# Altium footprint library 遥控器PCB.PcbLib: 11 footprints
Each footprint in its own frame and in the unit in brackets; x right, y up, seen from the top. Pads: shape width x height; smd on the part's side, far side on the other; paste and mask are expansions set on the pad; w line width, h text height; cw(c..) or ccw(c..) is an arc to the next point about the centre after c.
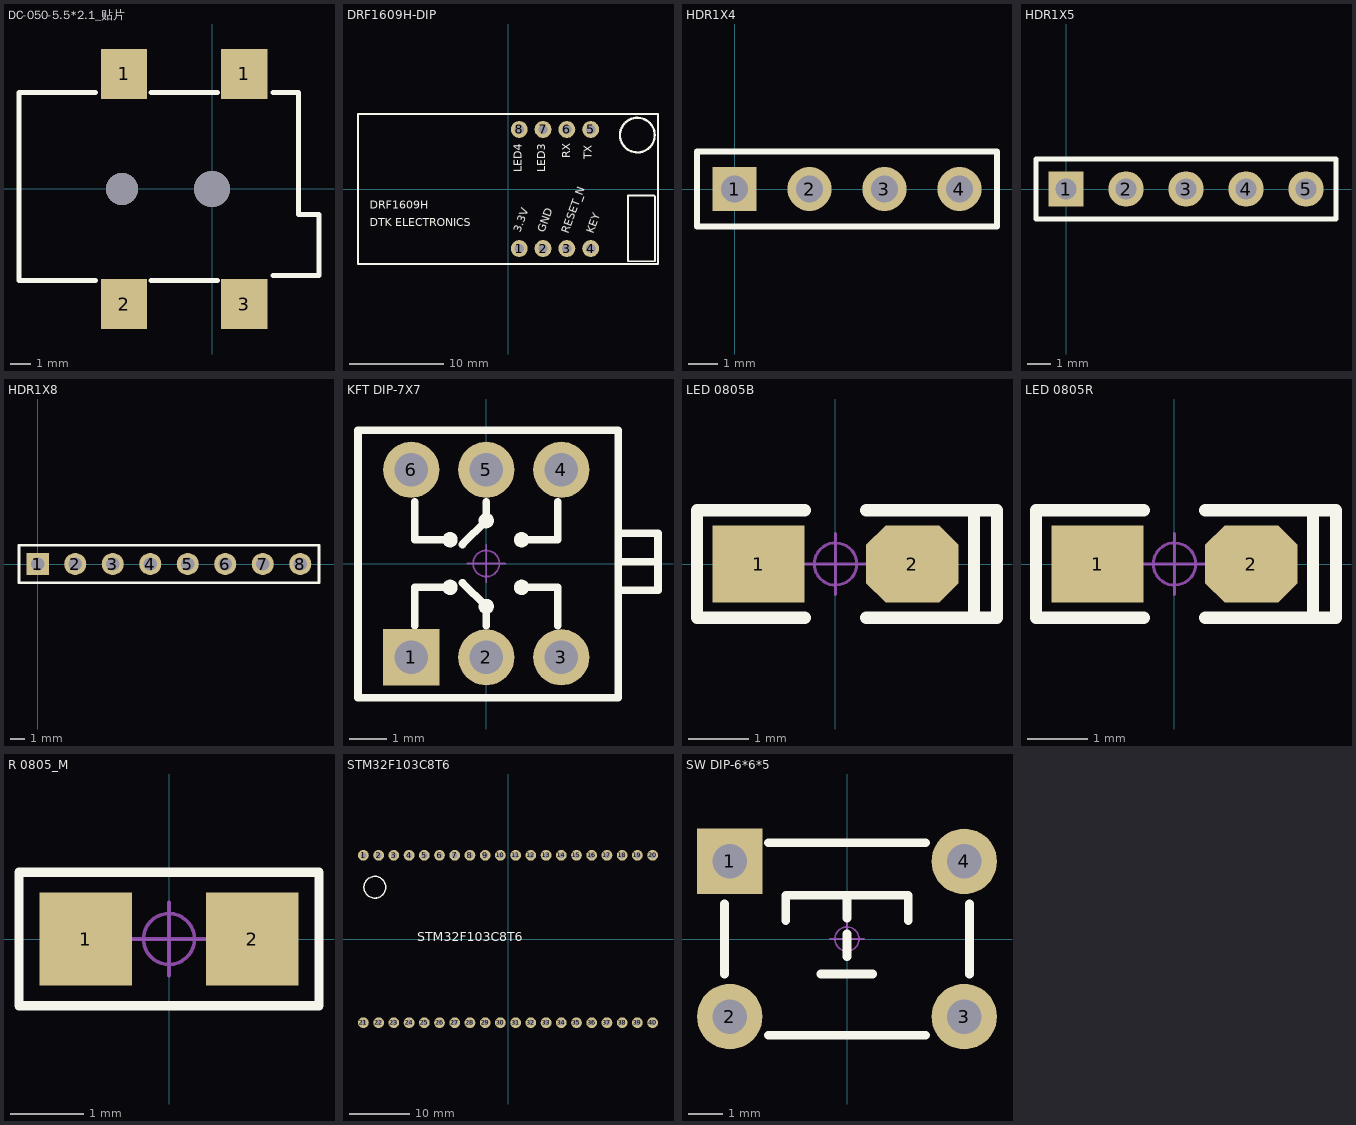
[diagram p0: the footprints below, top view; thin cyan lines are the x and y axes]

## DC-050-5.5*2.1_贴片 [mm] "5.5*2.1"
pads (4):
  rect 2.3x2.5 smd: 1(-4.4,5.75) 1(1.6,5.75) 2(-4.4,-5.75) 3(1.6,-5.75)
via -4.5,0 diameter 1.6 hole 1.6
via 0,0 diameter 1.8 hole 1.8
Top Overlay:
  lines w0.254: -5.842,-4.572 -9.652,-4.572 -9.652,4.826 -5.842,4.826 ; -3.048,-4.572 0.254,-4.572 ; -3.048,4.826 0.254,4.826 ; 3.048,-4.318 5.334,-4.318 5.334,-1.27 4.318,-1.27 4.318,4.826 3.048,4.826
3D body "DC-050.STEP": height 11, standoff -1.4, extent -9.593,-6.3 5.207,6.3

## DRF1609H-DIP [mm]
height 3
pads (8):
  round 1.8 hole 1: 1(1.2,-6.35) 2(3.74,-6.35) 3(6.28,-6.35) 4(8.82,-6.35) 5(8.82,6.35) 6(6.28,6.35) 7(3.74,6.35) 8(1.2,6.35)
Top Overlay:
  circle w0.25: c13.799,5.75 r1.851
  lines w0.2: -0.25,8 -7.65,8 -12.75,8 -16,8 -16,-8 -2.7,-8 0.175,-8 10.325,-8 ; -0.2,8 10.25,8 16,8 16,-8 10.25,-8 ; 12.8,-0.8 12.8,-7.7 15.7,-7.7 15.7,-0.8 ; 12.8,-0.7 15.6,-0.7
  text "LED4" at 1.778,1.778 h1.5
  text "LED3" at 4.318,1.778 h1.5
  text "RX" at 6.985,3.302 h1.5
  text "TX" at 9.271,3.175 h1.5
  text "KEY" at 9.398,-4.953 h1.5
  text "RESET_N" at 6.731,-4.953 h1.5
  text "GND" at 4.191,-4.826 h1.5
  text "3.3V" at 1.651,-4.826 h1.5
  text "DRF1609H" at -14.732,-2.413 h1.5
  text "DTK ELECTRONICS" at -14.732,-4.318 h1.5

## HDR1X4 [mm] "Connector; Header; 4 Position"
pads (4):
  rect 1.5x1.5 hole 0.9: 1(0,0)
  round 1.5 hole 0.9: 2(2.54,0) 3(5.08,0) 4(7.62,0)
Top Overlay:
  lines w0.2: -1.27,-1.27 8.89,-1.27 8.89,1.27 -1.27,1.27 -1.27,-1.27

## HDR1X5 [mm] "Connector; Header; 5 Position"
pads (5):
  rect 1.5x1.5 hole 0.9: 1(0,0)
  round 1.5 hole 0.9: 2(2.54,0) 3(5.08,0) 4(7.62,0) 5(10.16,0)
Top Overlay:
  lines w0.2: -1.27,-1.27 11.43,-1.27 11.43,1.27 -1.27,1.27 -1.27,-1.27

## HDR1X8 [mm] "Connector; Header; 8 Position"
pads (8):
  rect 1.5x1.5 hole 0.9: 1(0,0)
  round 1.5 hole 0.9: 2(2.54,0) 3(5.08,0) 4(7.62,0) 5(10.16,0) 6(12.7,0) 7(15.24,0) 8(17.78,0)
Top Overlay:
  lines w0.2: -1.27,-1.27 -1.27,1.27 19.05,1.27 19.05,-1.27 -1.27,-1.27

## KFT DIP-7X7 [mm] "自锁开关，规格：7*7mm"
pads (6):
  rect 1.5x1.5 hole 0.9: 1(-2,-2.5)
  round 1.5 hole 0.9: 2(0,-2.5) 3(2,-2.5) 4(2,2.5) 5(0,2.5) 6(-2,2.5)
Top Overlay:
  circle w0.254: c0.94,0.635 r0.076
  circle w0.254: c-0.965,0.635 r0.076
  circle w0.254: c0,1.143 r0.076
  circle w0.254: c0,-1.143 r0.076
  circle w0.254: c-0.965,-0.635 r0.076
  circle w0.254: c0.94,-0.635 r0.076
  lines w0.203: -1.905,-1.651 -1.905,-0.635 -0.889,-0.635 ; -1.905,1.651 -1.905,0.635 -0.889,0.635 ; -0.635,-0.508 0,-1.143 0,-1.651 ; -0.635,0.508 0,1.143 0,1.651 ; 1.016,-0.635 1.905,-0.635 1.905,-1.651 ; 1.016,0.635 1.905,0.635 1.905,1.651 ; 3.514,0.05 4.579,0.05 ; 3.563,-0.712 4.579,-0.712 4.579,0.812 3.563,0.812 ; -3.42,-3.581 -3.42,3.556 3.514,3.556 3.514,2.54 3.514,-3.581 -3.42,-3.581
Mechanical 15:
  circle w0.05: c0,0 r0.35
  lines w0.05: -0.5,0 0.5,0 ; 0,-0.5 0,0.5
3D body "SLSW 7x7.STEP": height 11.2, standoff -3.2, extent -3.5,-3.5 3.5,3.5

## LED 0805B [mil] "蓝色0805LED"
pads (2):
  rect 60x50 smd: 1(-50,0)
  oct 60x50 smd: 2(50,0)
Top Overlay:
  lines w8: -20,-35 -90,-35 -90,35 -20,35 ; 20,-35 105,-35 105,35 20,35 ; 90,-35 90,35
Mechanical 15:
  circle w1.97: c0,0 r13.78
  lines w1.97: -19.68,0 19.68,0 ; 0,-19.68 0,19.68
3D body "LED 0805-B.STEP": height 26.33, standoff -0.16, extent -39.37,-24.65 39.37,24.65
3D body "LED 0805玻璃罩.STEP": height 31.69, standoff 12.01, extent -29.49,-24.65 29.49,24.65

## LED 0805R [mil] "红色0805LED"
pads (2):
  rect 60x50 smd: 1(-50,0)
  oct 60x50 smd: 2(50,0)
Top Overlay:
  lines w8: -20,-35 -90,-35 -90,35 -20,35 ; 20,-35 105,-35 105,35 20,35 ; 90,-35 90,35
Mechanical 15:
  circle w1.97: c0,0 r13.78
  lines w1.97: -19.68,0 19.68,0 ; 0,-19.68 0,19.68
3D body "LED 0805玻璃罩.ST": height 31.69, standoff 12.01, extent -29.49,-24.65 29.49,24.65
3D body "LED 0805-R.STEP": height 26.33, standoff -0.16, extent -39.37,-24.65 39.37,24.64

## R 0805_M [mil] "1/8W贴片电阻"
pads (2):
  rect 50x50 smd: 1(-45,0) 2(45,0)
Top Overlay:
  lines w5: -81,-36 81,-36 81,36 -81,36 -81,-36
Mechanical 15:
  circle w1.97: c0,0 r13.78
  lines w1.97: -19.68,0 19.68,0 ; 0,-19.68 0,19.68
3D body "R 0805.STEP": height 19.72, standoff -0.24, extent -39.37,-24.61 39.37,24.61

## STM32F103C8T6 [mm] "telesky家的STM32F103C8T6"
pads (40):
  round 1.8 hole 1: 1(-24.13,13.97) 2(-21.59,13.97) 3(-19.05,13.97) 4(-16.51,13.97) 5(-13.97,13.97) 6(-11.43,13.97) 7(-8.89,13.97) 8(-6.35,13.97) 9(-3.81,13.97) 10(-1.27,13.97) 11(1.27,13.97) 12(3.81,13.97) 13(6.35,13.97) 14(8.89,13.97) 15(11.43,13.97) 16(13.97,13.97) 17(16.51,13.97) 18(19.05,13.97) 19(21.59,13.97) 20(24.13,13.97) 21(-24.13,-13.97) 22(-21.59,-13.97) 23(-19.05,-13.97) 24(-16.51,-13.97) 25(-13.97,-13.97) 26(-11.43,-13.97) 27(-8.89,-13.97) 28(-6.35,-13.97) 29(-3.81,-13.97) 30(-1.27,-13.97) 31(1.27,-13.97) 32(3.81,-13.97) 33(6.35,-13.97) 34(8.89,-13.97) 35(11.43,-13.97) 36(13.97,-13.97) 37(16.51,-13.97) 38(19.05,-13.97) 39(21.59,-13.97) 40(24.13,-13.97)
Top Overlay:
  circle w0.254: c-22.225,8.636 r1.818
  text "STM32F103C8T6" at -15.113,-0.381 h1.52

## SW DIP-6*6*5 [mm] "6*6*5mm"
pads (4):
  rect 1.9x1.9 hole 1: 1(-3.4,2.25)
  round 1.9 hole 1: 2(-3.4,-2.25) 3(3.4,-2.25) 4(3.4,2.25)
Top Overlay:
  lines w0.254: -3.556,-1.016 -3.556,1.016 ; -2.286,-2.794 2.286,-2.794 ; -2.286,2.794 2.286,2.794 ; -1.778,0.533 -1.778,1.27 1.778,1.27 1.778,0.533 ; -0.762,-1.016 0.737,-1.016 ; 0,-0.508 0,0.152 ; 0,0.61 0,1.27 ; 3.556,-1.016 3.556,1.016
Bottom Overlay:
  lines w0.254: -2.286,-2.286 2.286,-2.286 ; -2.286,2.286 2.286,2.286
Mechanical 15:
  circle w0.05: c0,0 r0.35
  lines w0.05: -0.5,0 0.5,0 ; 0,-0.5 0,0.5
3D body "TSW_DIP-6x6x5.STEP": height 4.95, standoff -3.45, extent -4.106,-3 4.106,3